# Altium footprint library OptoRelay.PcbLib: 3 footprints
Each footprint in its own frame and in the unit in brackets; x right, y up, seen from the top. Pads: shape width x height; smd on the part's side, far side on the other; paste and mask are expansions set on the pad; w line width, h text height; cw(c..) or ccw(c..) is an arc to the next point about the centre after c.
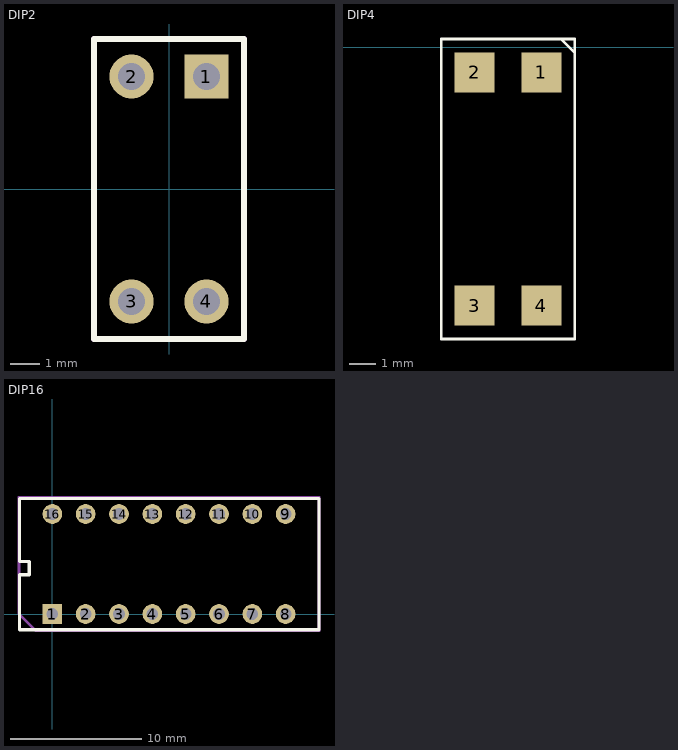
[diagram p0: the footprints below, top view; thin cyan lines are the x and y axes]

## DIP2 [mm]
pads (4):
  rect 1.5x1.5 hole 0.9: 1(1.27,3.81)
  round 1.5 hole 0.9: 2(-1.27,3.81) 3(-1.27,-3.81) 4(1.27,-3.81)
Top Overlay:
  lines w0.2: -2.54,-5.08 -2.54,5.08 2.54,5.08 2.54,-5.08 -2.54,-5.08
TopAssy:
  lines w0.2: -2.54,-5.08 2.54,-5.08 2.54,5.08 -2.54,5.08 -2.54,-5.08
  text ".Designator" at -1.27,1.27 h1.52
3D body "DIP4-7_62-2_54.STEP": height 4.3, standoff -2.7, extent -2.295,-3.94 2.295,3.94

## DIP4 [mm]
pads (4):
  rect 1.524x1.524 smd: 1(29.77,-0.955) 2(27.23,-0.955) 3(27.23,-9.845) 4(29.77,-9.845)
Top Overlay:
  lines w0.1: 30.5,0.3 30.54,0.3 31.04,-0.2 ; 25.96,-11.115 31.04,-11.115 31.04,0.315 25.96,0.315 25.96,-11.115
TopAssy:
  text ".Designator" at 26.67,-5.08 h1.52
3D body "4-SMD.step": height 3.71, standoff -0.05, extent 26.203,-10.48 30.8,-0.32

## DIP16 [mm]
pads (16):
  rect 1.5x1.5 hole 0.9: 1(0,0)
  round 1.5 hole 0.9: 2(2.54,0) 3(5.08,0) 4(7.62,0) 5(10.16,0) 6(12.7,0) 7(15.24,0) 8(17.78,0) 9(17.78,7.62) 10(15.24,7.62) 11(12.7,7.62) 12(10.16,7.62) 13(7.62,7.62) 14(5.08,7.62) 15(2.54,7.62) 16(0,7.62)
Top Overlay:
  lines w0.254: -2.5,-1.2 -2.5,3 -1.77,3 -1.77,4 -2.5,4 -2.5,8.8 20.32,8.8 20.32,-1.2 -2.5,-1.2
TopAssy:
  lines w0.2: -2.54,0 -2.54,8.89 20.32,8.89 20.32,-1.27 -1.27,-1.27 -2.54,0
  text ".Designator" at 6.35,3.81 h1.52
3D body "DIP16.STEP": height 4.19, standoff -2.57, extent -1.905,-0.254 19.685,7.62